# Altium footprint library MY.PCBLIB: 2 footprints
Each footprint in its own frame and in the unit in brackets; x right, y up, seen from the top. Pads: shape width x height; smd on the part's side, far side on the other; paste and mask are expansions set on the pad; w line width, h text height; cw(c..) or ccw(c..) is an arc to the next point about the centre after c.
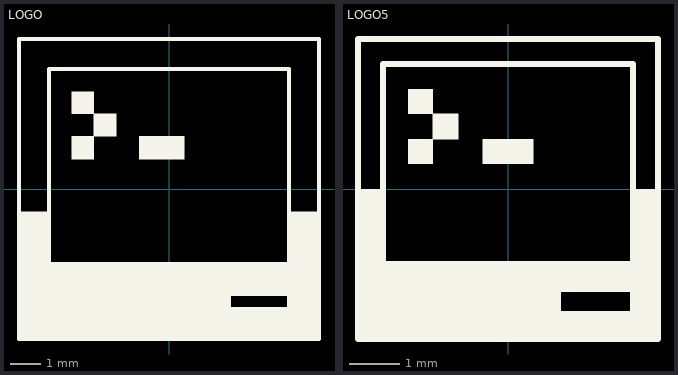
[diagram p0: the footprints below, top view; thin cyan lines are the x and y axes]

## LOGO [mm]
Top Overlay:
  region: -4,-5 -4,-2.5 2,-2.5 2,-5
  region: 4,-5 4,-0.75 5,-0.75 5,-5
  region: -5,-5 -5,-0.75 -4,-0.75 -4,-5
  region: 1.75,-5 1.75,-4 4.25,-4 4.25,-5
  region: -2.5,1.75 -2.5,2.5 -1.75,2.5 -1.75,1.75
  region: -1,1 -1,1.75 0.5,1.75 0.5,1
  region: 2,-3.5 2,-2.5 4.25,-2.5 4.25,-3.5
  region: -3.25,2.5 -3.25,3.25 -2.5,3.25 -2.5,2.5
  region: -3.25,1 -3.25,1.75 -2.5,1.75 -2.5,1
  lines w0.127: -5,-5 5,-5 5,5 -5,5 -5,-5 ; -4,-2.5 4,-2.5 4,4 -4,4 -4,-2.5 ; 2,-4 4,-4 4,-3.5 2,-3.5 2,-4

## LOGO5 [mm]
Top Overlay:
  region: -3,-3 -3,-1.5 1,-1.5 1,-3
  region: -0.5,0.5 -0.5,1 0.5,1 0.5,0.5
  region: 1,-2 1,-1.5 3,-1.5 3,-2
  region: 1,-3 1,-2.5 2.5,-2.5 2.5,-3
  region: 2.5,-1.5 2.5,0 3,0 3,-1.5
  region: -3,-3 -3,0 -2.5,0 -2.5,-3
  region: 2.5,-3 2.5,-2 3,-2 3,-3
  region: -2,0.5 -2,1 -1.5,1 -1.5,0.5
  region: -1.5,1 -1.5,1.5 -1,1.5 -1,1
  region: -2,1.5 -2,2 -1.5,2 -1.5,1.5
  lines w0.127: -3,-3 3,-3 3,3 -3,3 -3,-3 ; -2.5,-1.5 2.5,-1.5 2.5,2.5 -2.5,2.5 -2.5,-1.5 ; 1,-2.5 2.5,-2.5 2.5,-2 1,-2 1,-2.5